# Altium footprint library PCB - DIODES - SOT143B.PCBLIB: 1 footprints
Each footprint in its own frame and in the unit in brackets; x right, y up, seen from the top. Pads: shape width x height; smd on the part's side, far side on the other; paste and mask are expansions set on the pad; w line width, h text height; cw(c..) or ccw(c..) is an arc to the next point about the centre after c.
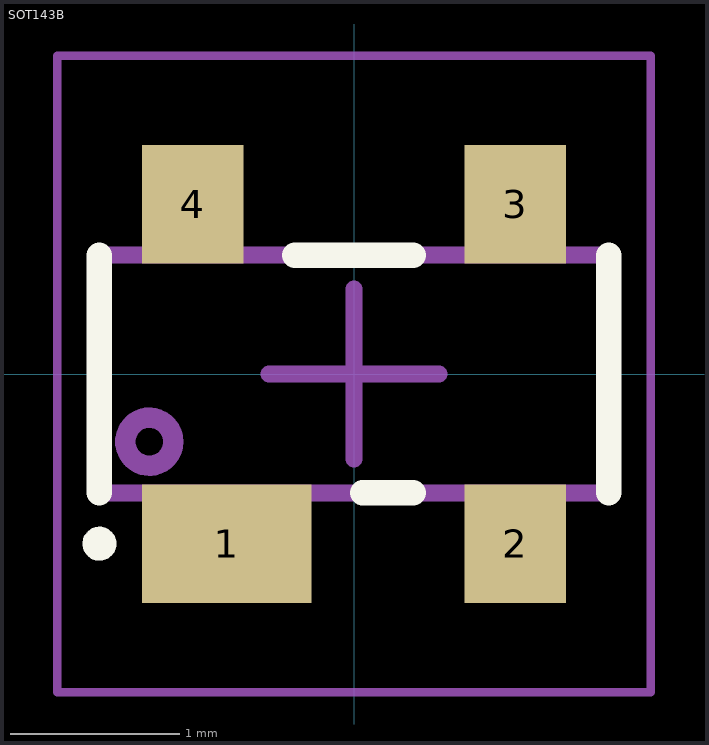
[diagram p0: the footprint, top view; thin cyan lines are the x and y axes]

## SOT143B [mm] "SOT143, 4-Leads, Body 2.90x2.30mm, Pitch 1.90mm, IPC Medium Density"
height 1.1
pads (4):
  rect 1x0.7 smd: 1(-0.75,-1)
  rect 0.6x0.7 smd: 2(0.95,-1) 3(0.95,1) 4(-0.95,1)
Top Overlay:
  circle w0.1: c-1.5,-1 r0.05
  lines w0.15: -1.5,-0.7 -1.5,0.7 ; -0.35,0.7 0.35,0.7 ; 0.05,-0.7 0.35,-0.7 ; 1.5,-0.7 1.5,0.7
Top Assembly:
  circle w0.12: c-1.206,-0.399 r0.141
  lines w0.1: -1.5,-0.7 -1.5,0.7 1.5,0.7 1.5,-0.7 -1.5,-0.7
  text ".Designator" at -2.695,-0.271 h1.2
Top Courtyard:
  lines w0.05: -1.75,-1.875 1.75,-1.875 1.75,1.875 -1.75,1.875 -1.75,-1.875
  lines w0.1: -0.5,0 0.5,0 ; 0,-0.5 0,0.5
3D body "SOT143B.STEP": height 1, standoff 0, extent -1.45,-1.1 1.45,1.1